# Altium footprint library PcbLib1.PcbLib: 2 footprints
Each footprint in its own frame and in the unit in brackets; x right, y up, seen from the top. Pads: shape width x height; smd on the part's side, far side on the other; paste and mask are expansions set on the pad; w line width, h text height; cw(c..) or ccw(c..) is an arc to the next point about the centre after c.
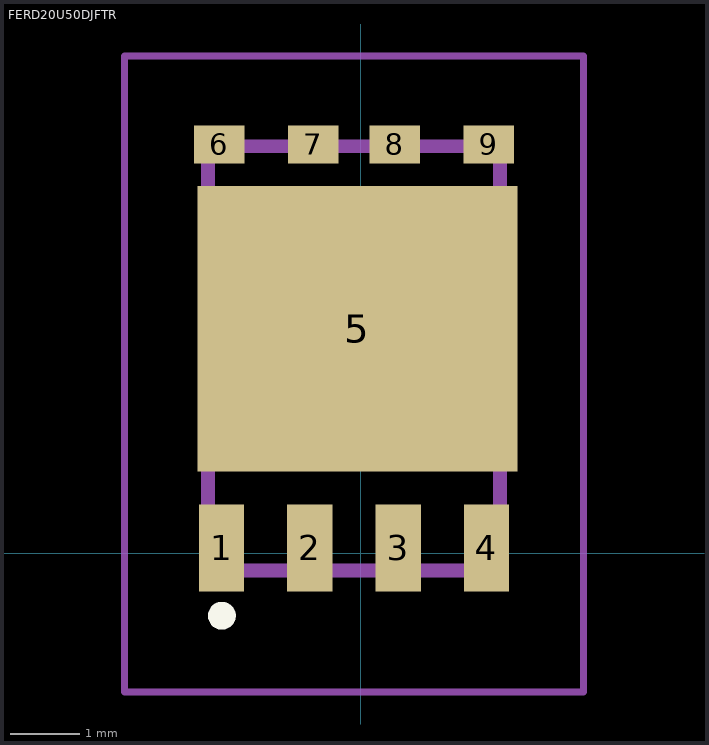
[diagram p0: the footprints below, top view; thin cyan lines are the x and y axes]

## FERD20U50DJFTR [mm]
pads (9):
  rect 0.65x1.25 smd: 1(-2.005,0.075) 2(-0.735,0.075) 3(0.535,0.075) 4(1.805,0.075)
  rect 4.6x4.1 smd: 5(-0.05,3.225)
  rect 0.725x0.55 smd: 6(-2.038,5.875) 7(-0.688,5.875) 8(0.487,5.875) 9(1.837,5.875)
Top Overlay:
  lines w0.2: -2.1,-0.9 ccw(c-2,-0.9) -1.9,-0.9 ccw(c-2,-0.9) -2.1,-0.9
Mechanical 13:
  lines w0.2: -2.2,-0.25 -2.2,5.85 2,5.85 2,-0.25 -2.2,-0.25
Mechanical 15:
  lines w0.1: -3.4,-2 -3.4,7.15 3.2,7.15 3.2,-2 -3.4,-2
3D body "STL130N6F7.stp": height 1, standoff 0, extent -2.65,-0.175 2.55,5.975

## PCBComponent_1 [mm]